# Altium footprint library V_7.PcbLib: 3 footprints
Each footprint in its own frame and in the unit in brackets; x right, y up, seen from the top. Pads: shape width x height; smd on the part's side, far side on the other; paste and mask are expansions set on the pad; w line width, h text height; cw(c..) or ccw(c..) is an arc to the next point about the centre after c.
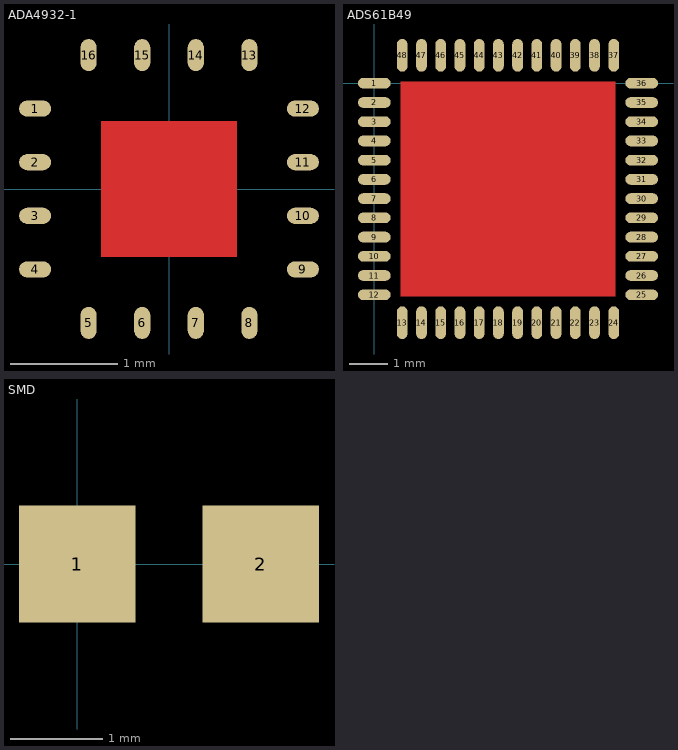
[diagram p0: the footprints below, top view; thin cyan lines are the x and y axes]

## ADA4932-1 [mm]
pads (16):
  oval 0.3x0.15 smd: 1(-1.25,0.75) 2(-1.25,0.25) 3(-1.25,-0.25) 4(-1.25,-0.75) 9(1.25,-0.75) 10(1.25,-0.25) 11(1.25,0.25) 12(1.25,0.75)
  oval 0.15x0.3 smd: 5(-0.75,-1.25) 6(-0.25,-1.25) 7(0.25,-1.25) 8(0.75,-1.25) 13(0.75,1.25) 14(0.25,1.25) 15(-0.25,1.25) 16(-0.75,1.25)
Top Layer:
  rectangle: -0.635,-0.635 0.635,0.635

## ADS61B49 [mm]
pads (48):
  oval 0.85x0.28 smd: 1(0,0) 2(0,-0.5) 3(0,-1) 4(0,-1.5) 5(0,-2) 6(0,-2.5) 7(0,-3) 8(0,-3.5) 9(0,-4) 10(0,-4.5) 11(0,-5) 12(0,-5.5) 25(6.95,-5.5) 26(6.95,-5) 27(6.95,-4.5) 28(6.95,-4) 29(6.95,-3.5) 30(6.95,-3) 31(6.95,-2.5) 32(6.95,-2) 33(6.95,-1.5) 34(6.95,-1) 35(6.95,-0.5) 36(6.95,0)
  oval 0.28x0.85 smd: 13(0.725,-6.225) 14(1.225,-6.225) 15(1.725,-6.225) 16(2.225,-6.225) 17(2.725,-6.225) 18(3.225,-6.225) 19(3.725,-6.225) 20(4.225,-6.225) 21(4.725,-6.225) 22(5.225,-6.225) 23(5.725,-6.225) 24(6.225,-6.225) 37(6.225,0.725) 38(5.725,0.725) 39(5.225,0.725) 40(4.725,0.725) 41(4.225,0.725) 42(3.725,0.725) 43(3.225,0.725) 44(2.725,0.725) 45(2.225,0.725) 46(1.725,0.725) 47(1.225,0.725) 48(0.725,0.725)
Top Layer:
  rectangle: 0.675,-5.55 6.275,0.05

## SMD [mm]
pads (2):
  rect 1.27x1.27 smd: 1(0,0) 2(2,0)